# EAGLE library part MDBT42Q (library MDBT42Q_210702)
Raytac Corporation Part Number: (nRF52832) MDBT42Q-512KV2 / MDBT42Q-P512KV2 / MDBT42Q-U512KV2 (nRF52810) MDBT42Q-192KV2 / MDBT42Q-P192KV2 (nRF52811) MDBT42Q-192KL / MDBT42Q-P192KL Bluetooth Low Energy Module based on Noridc nRF52832 / nRF52810 / nRF52811 Size: 16x10mm Source: Raytac datasheet
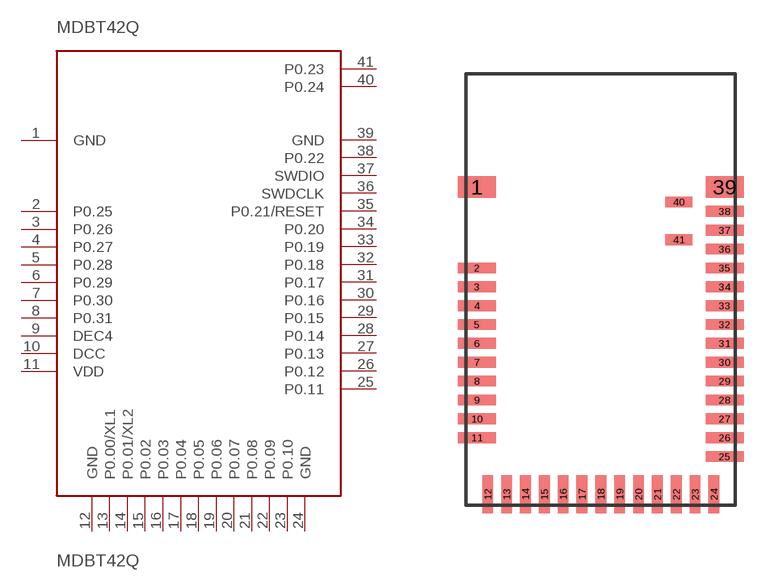
[diagram p0: symbol with the pads of MDBT42Q; footprint MDBT42Q]

Designator prefix MDBT42Q

## MDBT42Q  [MDBT42Q]
1  GND
2  P0.25
3  P0.26
4  P0.27
5  P0.28
6  P0.29
7  P0.30
8  P0.31
9  DEC4
10  DCC
11  VDD
12  GND
13  P0.00/XL1
14  P0.01/XL2
15  P0.02
16  P0.03
17  P0.04
18  P0.05
19  P0.06
20  P0.07
21  P0.08
22  P0.09
23  P0.10
24  GND
25  P0.11
26  P0.12
27  P0.13
28  P0.14
29  P0.15
30  P0.16
31  P0.17
32  P0.18
33  P0.19
34  P0.20
35  P0.21/RESET
36  SWDCLK
37  SWDIO
38  P0.22
39  GND
40  P0.24
41  P0.23

## Footprint MDBT42Q (pad centres in mm)
Raytac Corporation Part Number: (nRF52832) MDBT42Q-512KV2 / MDBT42Q-P512KV2 / MDBT42Q-U512KV2 (nRF52810) MDBT42Q-192KV2 / MDBT42Q-P192KV2 (nRF52811) MDBT42Q-192KL / MDBT42Q-P192KL Bluetooth Low Energy Module based on Noridc nRF52832 / nRF52810 / nRF52811 Size: 16x10mm Source: Raytac datasheet
smd 1.4 x 0.8: 1 -4.6,3.8; 39 4.6,3.8
smd 1.4 x 0.4: 2 -4.6,0.8; 3 -4.6,0.1; 4 -4.6,-0.6; 5 -4.6,-1.3; 6 -4.6,-2; 7 -4.6,-2.7; 8 -4.6,-3.4; 9 -4.6,-4.1; 10 -4.6,-4.8; 11 -4.6,-5.5; 25 4.6,-6.2; 26 4.6,-5.5; 27 4.6,-4.8; 28 4.6,-4.1; 29 4.6,-3.4; 30 4.6,-2.7; 31 4.6,-2; 32 4.6,-1.3; 33 4.6,-0.6; 34 4.6,0.1; 35 4.6,0.8; 36 4.6,1.5; 37 4.6,2.2; 38 4.6,2.9
smd 0.4 x 1.4: 12 -4.2,-7.6; 13 -3.5,-7.6; 14 -2.8,-7.6; 15 -2.1,-7.6; 16 -1.4,-7.6; 17 -0.7,-7.6; 18 0,-7.6; 19 0.7,-7.6; 20 1.4,-7.6; 21 2.1,-7.6; 22 2.8,-7.6; 23 3.5,-7.6; 24 4.2,-7.6
smd 1 x 0.4: 40 2.9,3.25; 41 2.9,1.85